# EAGLE library part OPA2690 (library op-amp)
IC OPAMP VFB 300MHZ
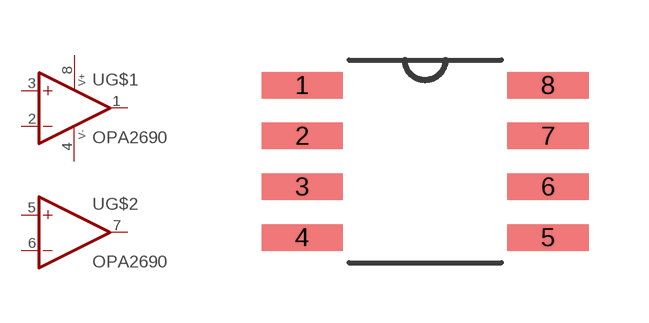
[diagram p71: symbol with the pads of SOIC8; footprint SOIC8]

Designator prefix U; gates G$1=OPAMP G$2=OPAMP G$3=PWR+-

## OPA2690 (DIGIKEY: 296-13465-5-ND; P1I: o)  [SOIC8]
1  G$1:OUT  out
2  G$1:-IN  in
3  G$1:+IN  in
4  G$3:V-  pwr
5  G$2:+IN  in
6  G$2:-IN  in
7  G$2:OUT  out
8  G$3:V+  pwr

## Footprint SOIC8 (pad centres in mm)
smd 2.032 x 0.66: 1 -3.073,1.905; 2 -3.073,0.635; 3 -3.073,-0.635; 4 -3.073,-1.905; 5 3.073,-1.905; 6 3.073,-0.635; 7 3.073,0.635; 8 3.073,1.905